# Altium schematic symbol library DT13-4P.SchLib: 1 symbol
Pins are listed as number, name and electrical type; pins without a type are passive.

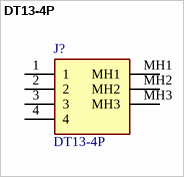
[diagram p0: symbol DT13-4P]

## DT13-4P
designator J?
Body Features: Primary Product Color Gray | Configuration Features: Number of Sections 1 | Number of Rows 2 | PCB Mount Orientation Right Angle | Number of Positions 4 | Number of Signal Positions 4 | Contact Features: Contact Size Size 16 | Contact Current Rating (Max) 13 AMP | Contact Type Pin | Mating Pin Diameter 1.59 MM | Mating Pin Diameter .063 INCH | Contact Mating Area Plating Material Nickel | Dimensions: PCB Thickness (Recommended) .78  2.36 MM | Profile Height from PCB 1.388 INCH | Connector; Manufacturer_Name: TE Connectivity; Geometry.Height: 36.12mm; Manufacturer_Part_Number: DT13-4P; Mouser Part Number: 571-DT13-4P; Mouser Price/Stock: https://www.mouser.co.uk/ProductDetail/TE-Connectivity-DEUTSCH/DT13-4P?qs=vkMqrgFpRajaLeBfOZKzWQ%3D%3D; Arrow Part Number: *; Arrow Price/Stock: *; Datasheet Link: https://www.te.com/commerce/DocumentDelivery/DDEController?Action=srchrtrv&DocNm=1-1773962-8&DocType=Data%20Sheet&DocLang=English&PartCntxt=DT13-4P&DocFormat=pdf
footprint DT134P
pins: 1, 2, 3, 4, MH1, MH2, MH3